# Altium footprint library marcolib.PcbLib: 41 footprints (part 3 of 3)
Each footprint in its own frame and in the unit in brackets; x right, y up, seen from the top. Pads: shape width x height; smd on the part's side, far side on the other; paste and mask are expansions set on the pad; w line width, h text height; cw(c..) or ccw(c..) is an arc to the next point about the centre after c.
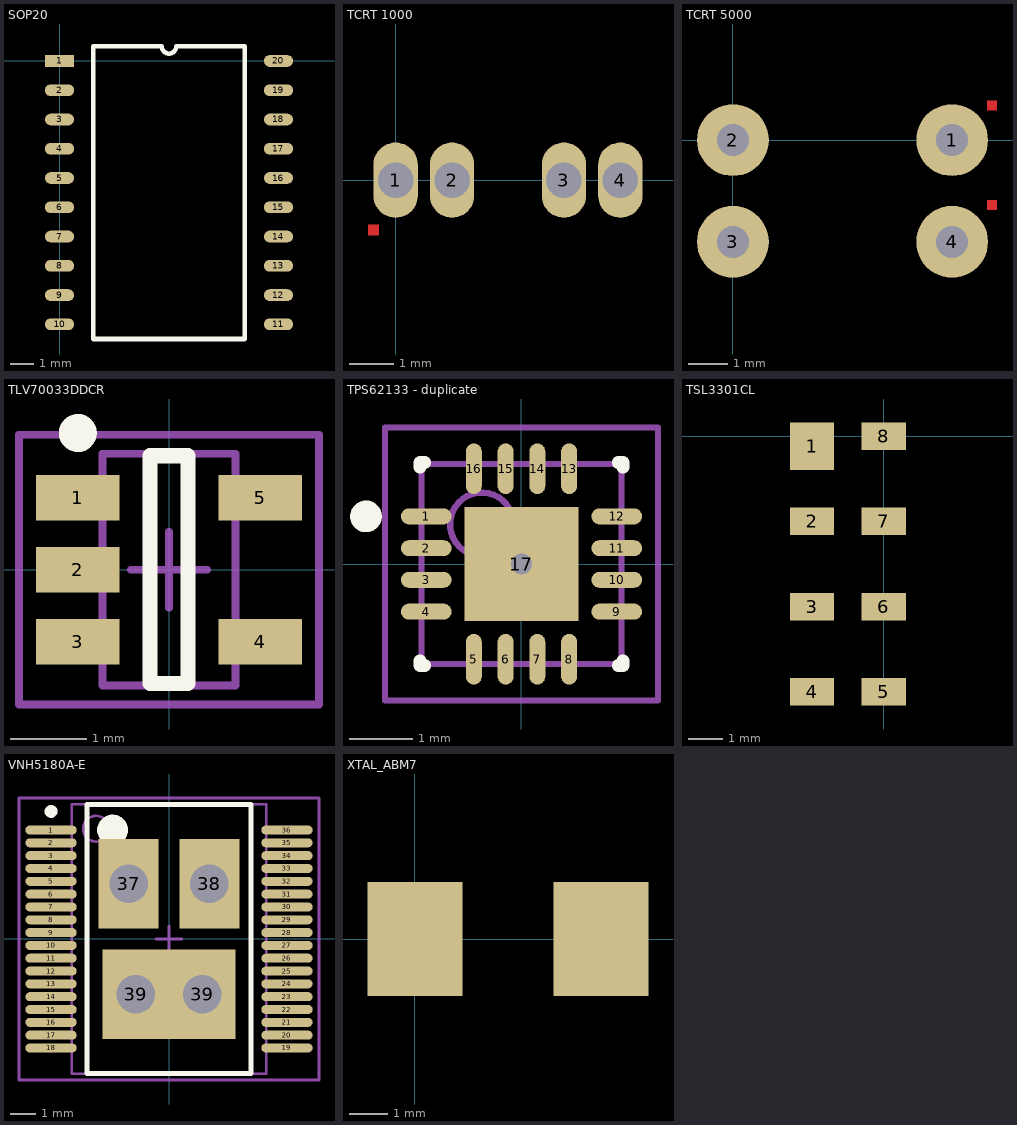
[diagram p2: the footprints below, top view; thin cyan lines are the x and y axes]

## SOP20 [mm]
pads (20):
  rect 1.27x0.51 smd: 1(0,0)
  oval 1.27x0.51 smd: 2(0,-1.27) 3(0,-2.54) 4(0,-3.81) 5(0,-5.08) 6(0,-6.35) 7(0,-7.62) 8(0,-8.89) 9(0,-10.16) 10(0,-11.43) 11(9.5,-11.43) 12(9.5,-10.16) 13(9.5,-8.89) 14(9.5,-7.62) 15(9.5,-6.35) 16(9.5,-5.08) 17(9.5,-3.81) 18(9.5,-2.54) 19(9.5,-1.27) 20(9.5,0)
Top Overlay:
  lines w0.2: 1.47,-12.065 1.47,0.635 4.432,0.635 ccw(c4.75,0.635) 5.067,0.635 8.03,0.635 8.03,-12.065 1.47,-12.065

## TCRT 1000 [mm]
pads (4):
  oval 1x1.7 hole 0.8: 1(0,0) 2(1.275,0) 3(3.8,0) 4(5.075,0)
Top Layer:
  rectangle: -0.625,-1.25 -0.375,-1

## TCRT 5000 [mm]
pads (4):
  round 1.8 hole 0.8: 1(5.5,0) 2(0,0) 3(0,-2.55) 4(5.5,-2.55)
Top Layer:
  rectangle: 6.375,-1.75 6.625,-1.5
  rectangle: 6.375,0.75 6.625,1

## TLV70033DDCR [mm] "SOT23, 5-Leads, Body 3.0x3.0mm (max), Pitch 0.95mm, IPC Medium Density"
height 1.1
pads (5):
  rect 1.1x0.6 smd: 1(-1.2,0.95) 2(-1.2,0) 3(-1.2,-0.95) 4(1.2,-0.95) 5(1.2,0.95)
Top Overlay:
  circle w0.25: c-1.2,1.8 r0.125
  lines w0.2: -0.25,-1.5 -0.25,1.5 0.25,1.5 0.25,-1.5 -0.25,-1.5
Mechanical 13:
  lines w0.1: -0.875,-1.525 0.875,-1.525 0.875,1.525 -0.875,1.525 -0.875,-1.525
Mechanical 15:
  lines w0.1: -0.5,0 0.5,0 ; 0,-0.5 0,0.5 ; -1.975,-1.775 1.975,-1.775 1.975,1.775 -1.975,1.775 -1.975,-1.775
3D body: height 1.1, standoff 0.1, extent -0.875,-1.525 0.875,1.525

## TPS62133 [mm]

## TPS62133 - duplicate [mm]
height 1
pads (17):
  oval 0.8x0.25 smd: 1(-1.5,0.75) 2(-1.5,0.25) 3(-1.5,-0.25) 4(-1.5,-0.75) 9(1.5,-0.75) 10(1.5,-0.25) 11(1.5,0.25) 12(1.5,0.75)
  oval 0.25x0.8 smd: 5(-0.75,-1.5) 6(-0.25,-1.5) 7(0.25,-1.5) 8(0.75,-1.5) 13(0.75,1.5) 14(0.25,1.5) 15(-0.25,1.5) 16(-0.75,1.5)
  rect 1.8x1.8 smd: 17(0,0)
via 0,0 diameter 0.66 hole 0.33
Top Overlay:
  circle w0.25: c-2.45,0.75 r0.125
  lines w0.2: -1.6,-1.525 -1.6,-1.6 -1.525,-1.6 ; -1.6,1.525 -1.6,1.6 -1.525,1.6 ; 1.525,-1.6 1.6,-1.6 1.6,-1.525 ; 1.525,1.6 1.6,1.6 1.6,1.525
Mechanical 13:
  circle w0.1: c-0.625,0.625 r0.5
  lines w0.1: -1.575,-1.575 -1.575,1.575 1.575,1.575 1.575,-1.575 -1.575,-1.575
Mechanical 15:
  lines w0.1: -0.5,0 0.5,0 ; 0,-0.5 0,0.5 ; -2.15,-2.15 -2.15,2.15 2.15,2.15 2.15,-2.15 -2.15,-2.15
3D body: height 1, standoff 0.08, extent -1.575,-1.575 1.575,1.575

## TSL3301CL [mm]
pads (8):
  rect 1.3x1.4 smd: 1(-2.1,-0.3)
  rect 1.3x0.8 smd: 2(-2.1,-2.5) 3(-2.1,-5) 4(-2.1,-7.5) 5(0,-7.5) 6(0,-5) 7(0,-2.5) 8(0,0)

## VNH5180A-E [mm] "SSOP, 36-Leads, Body 10.5x7.6mm (max), Pitch 0.50mm, IPC Medium Density"
height 2.47
pads (40):
  oval 2x0.35 smd: 1(-4.6,4.25) 2(-4.6,3.75) 3(-4.6,3.25) 4(-4.6,2.75) 5(-4.6,2.25) 6(-4.6,1.75) 7(-4.6,1.25) 8(-4.6,0.75) 9(-4.6,0.25) 10(-4.6,-0.25) 11(-4.6,-0.75) 12(-4.6,-1.25) 13(-4.6,-1.75) 14(-4.6,-2.25) 15(-4.6,-2.75) 16(-4.6,-3.25) 17(-4.6,-3.75) 18(-4.6,-4.25) 19(4.6,-4.25) 20(4.6,-3.75) 21(4.6,-3.25) 22(4.6,-2.75) 23(4.6,-2.25) 24(4.6,-1.75) 25(4.6,-1.25) 26(4.6,-0.75) 27(4.6,-0.25) 28(4.6,0.25) 29(4.6,0.75) 30(4.6,1.25) 31(4.6,1.75) 32(4.6,2.25) 33(4.6,2.75) 34(4.6,3.25) 35(4.6,3.75) 36(4.6,4.25)
  rect 2.35x3.5 hole 1.5: 37(-1.575,2.15) 38(1.575,2.15)
  rect 2.6x3.5 hole 1.5: 39(-1.3,-2.15) 39(1.3,-2.15)
Top Overlay:
  circle w0.25: c-4.6,4.975 r0.125
  circle w0.6: c-2.2,4.25 r0.3
  lines w0.2: -3.2,-5.25 -3.2,5.25 3.2,5.25 3.2,-5.25 -3.2,-5.25
Mechanical 13:
  circle w0.1: c-2.85,4.3 r0.5
  lines w0.1: -3.8,-5.25 -3.8,5.25 3.8,5.25 3.8,-5.25 -3.8,-5.25
Mechanical 15:
  lines w0.1: -0.5,0 0.5,0 ; 0,-0.5 0,0.5 ; -5.85,-5.5 -5.85,5.5 5.85,5.5 5.85,-5.5 -5.85,-5.5
3D body: height 2.47, standoff 0.23, extent -3.8,-5.25 3.8,5.25

## XTAL_ABM7 [mm] "Oscillator/Crystal"
pads (2):
  rect 2.5x3 smd: ""(0,0) ""(4.9,0)